# Altium schematic symbol library Keyboard_Lib.SchLib: 1 symbol
Pins are listed as number, name and electrical type; pins without a type are passive.

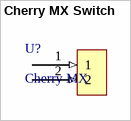
[diagram p0: symbol Cherry MX Switch]

## Cherry MX Switch
designator U?, comment Cherry MX
Footprint for PCB mounted Cherry MX switch
footprint Cherry MX-Footprint-1
pins: 1 (in), 2 (in)